# EAGLE library part LMZ31704 (library RitLaunchInitiative)
Switching Buck converter | DC/DC CONVERTER 0.6-5.5V 22W QFN|http://www.ti.com/lit/ds/symlink/lmz31704.pdf
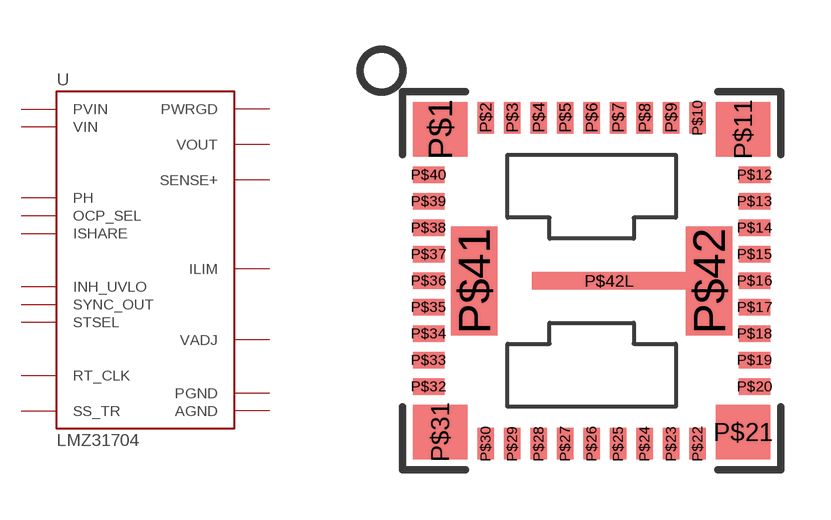
[diagram p14: symbol with the pads of 42-QFN; footprint 42-QFN]

Designator prefix -

## LMZ31704 (DIGI: 296-37135-1-ND; MPN: LMZ31704RVQT)  [42-QFN]
P$1  PVIN
P$2  AGND
P$3  VIN
P$4  OCP_SEL
P$6  ILIM
P$7  SYNC_OUT
P$8  PWRGD
P$10  PH
P$11  PVIN
P$12  PVIN
P$13  PH
P$14  PH
P$15  PH
P$16  PH
P$17  PH
P$18  PH
P$19  PH
P$20  PGND
P$21  PGND
P$22  RT_CLK
P$23  AGND
P$25  ISHARE
P$26  VADJ
P$27  SENSE+
P$28  SS_TR
P$29  STSEL
P$30  INH_UVLO
P$31  PGND
P$32  PGND
P$33  PGND
P$34  VOUT
P$35  VOUT
P$36  VOUT
P$37  VOUT
P$38  VOUT
P$39  PVIN
P$40  PVIN
P$41  VOUT
P$42  PH
P$42L  PH

## Footprint 42-QFN (pad centres in mm)
smd 1.65 x 1.65: P$1 -4.575,4.575; P$11 4.575,4.575; P$21 4.575,-4.575; P$31 -4.575,-4.575
smd 0.5 x 0.95: P$2 -3.2,4.925; P$3 -2.4,4.925; P$4 -1.6,4.925; P$5 -0.8,4.925; P$6 0,4.925; P$7 0.8,4.925; P$8 1.6,4.925; P$9 2.4,4.925; P$10 3.2,4.925; P$22 3.2,-4.925; P$23 2.4,-4.925; P$24 1.6,-4.925; P$25 0.8,-4.925; P$26 0,-4.925; P$27 -0.8,-4.925; P$28 -1.6,-4.925; P$29 -2.4,-4.925; P$30 -3.2,-4.925
smd 0.95 x 0.5: P$12 4.925,3.2; P$13 4.925,2.4; P$14 4.925,1.6; P$15 4.925,0.8; P$16 4.925,0; P$17 4.925,-0.8; P$18 4.925,-1.6; P$19 4.925,-2.4; P$20 4.925,-3.2; P$32 -4.925,-3.2; P$33 -4.925,-2.4; P$34 -4.925,-1.6; P$35 -4.925,-0.8; P$36 -4.925,0; P$37 -4.925,0.8; P$38 -4.925,1.6; P$39 -4.925,2.4; P$40 -4.925,3.2
smd 1.4 x 3.29: P$41 -3.55,0; P$42 3.55,0
smd 4.65 x 0.525: P$42L 0.525,0